# Altium schematic symbol library SCH - FET - NMOS - MSC035SMA070S.SCHLIB: 1 symbol
Pins are listed as number, name and electrical type; pins without a type are passive.

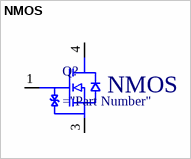
[diagram p0: symbol NMOS]

## NMOS
designator Q?
NMOS
pins: 1 G, 3 S, 4 D